# EAGLE library part *33039 (library freescale-pressure-transducer)
Closed Loop Brushless Motor Adapter *NCV33039: Tlow = -40C, Thigh = +125C. Guaranteed by design. http://onsemi.com; mc33039-d.pdf
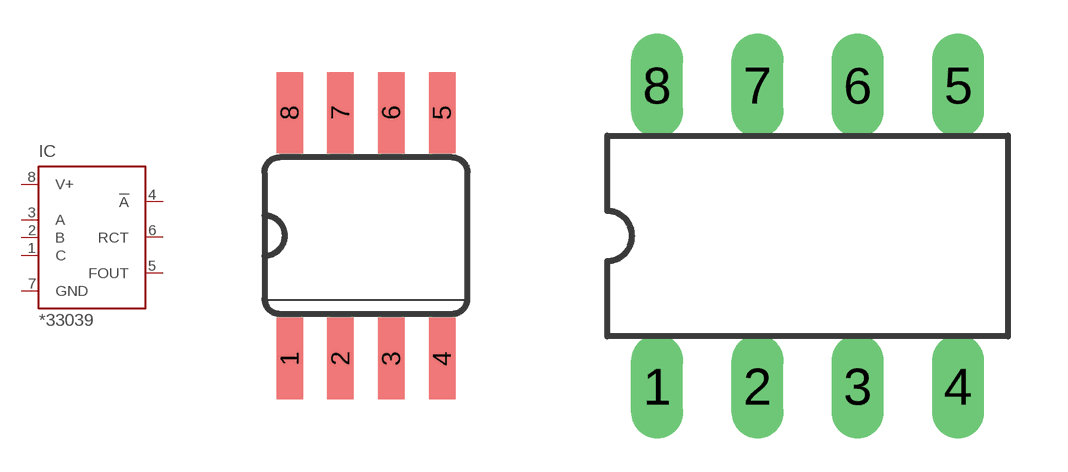
[diagram p1: symbol with the pads of SO08; footprints SO08, DIP08]

Designator prefix IC

## MC33039D (MF: ON SEMICONDUCTOR; MPN: MC33039D; OC_FARNELL: 1150437; OC_NEWARK: 07F4700), NCV33039D (MF: ON SEMICONDUCTOR; MPN: NCV33039DR2G; OC_FARNELL: unknown; OC_NEWARK: 42K2044)  [SO08]
1  C  in
2  B  in
3  A  in
4  !A  out
5  FOUT  out
6  RCT  pas
7  GND  pwr
8  V+  pwr

## MC33039P (MF: ON SEMICONDUCTOR; MPN: MC33039P; OC_FARNELL: unknown; OC_NEWARK: 07F4701)  [DIP08]
Pads as for SO08

## Footprint SO08 (pad centres in mm)
Small Outline Package SO-8, CASE 751
smd 0.66 x 2.032: 1 -1.905,-3.073; 2 -0.635,-3.073; 3 0.635,-3.073; 4 1.905,-3.073; 5 1.905,3.073; 6 0.635,3.073; 7 -0.635,3.073; 8 -1.905,3.073

## Footprint DIP08 (pad centres in mm)
Dual In Line
drill 0.813 long: 1 -3.81,-3.81; 2 -1.27,-3.81; 3 1.27,-3.81; 4 3.81,-3.81; 5 3.81,3.81; 6 1.27,3.81; 7 -1.27,3.81; 8 -3.81,3.81